# Altium schematic symbol library Schlib1.SchLib: 2 symbols
Pins are listed as number, name and electrical type; pins without a type are passive.

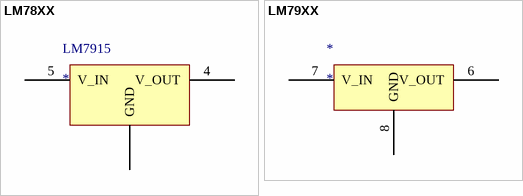
[diagram p0: symbols LM78XX to LM79XX]

## LM78XX
designator LM7915
pins: 3 GND, 4 V_OUT, 5 V_IN

## LM79XX
designator *
pins: 6 V_OUT, 7 V_IN, 8 GND